# EAGLE library part FFC2B35-10-T (library FFC2B35-10-T)
10 Position FFC, FPC Connector Contacts, Bottom 0.020" (0.50mm) Surface Mount, Right Angle Source: Datasheet <https://gct.co/files/drawings/ffc2b35.pdf>
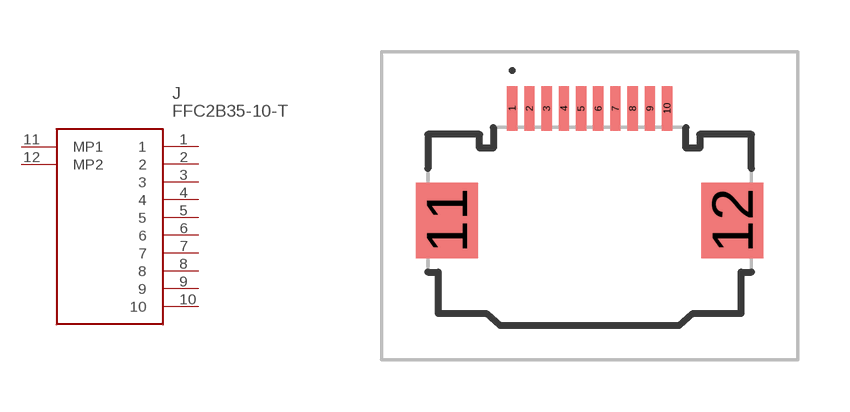
[diagram p0: symbol with the pads of FFC2B3510T; footprint FFC2B3510T]

Designator prefix J

## FFC2B35-10-T (Description: 10 Position FFC, FPC Connector Contacts, Bottom 0.020" (0.50mm) Surface Mount, Right Angle; Height: 2.2mm; Manufacturer_Name: GCT (GLOBAL CONNECTOR TECHNOLOGY); Manufacturer_Part_Number: FFC2B35-10-T; Mouser_Part_Number: 640-FFC2B35-10-T; Mouser_Price-Stock: https://www.mouser.co.uk/ProductDetail/GCT/FFC2B35-10-T?qs=Li%252BoUPsLEnvL34Nnr1m37A%3D%3D)  [FFC2B3510T]
1  1
2  2
3  3
4  4
5  5
6  6
7  7
8  8
9  9
10  10
11  MP1
12  MP2

## Footprint FFC2B3510T (pad centres in mm)
FFC2B35-10-T-1
smd 0.3 x 1.3: 1 -2.25,2.825; 2 -1.75,2.825; 3 -1.25,2.825; 4 -0.75,2.825; 5 -0.25,2.825; 6 0.25,2.825; 7 0.75,2.825; 8 1.25,2.825; 9 1.75,2.825; 10 2.25,2.825
smd 1.8 x 2.2: 11 -4.15,-0.425; 12 4.15,-0.425